# EAGLE library part QFN80 (library ASS3145-QFN80-0.5-CL)
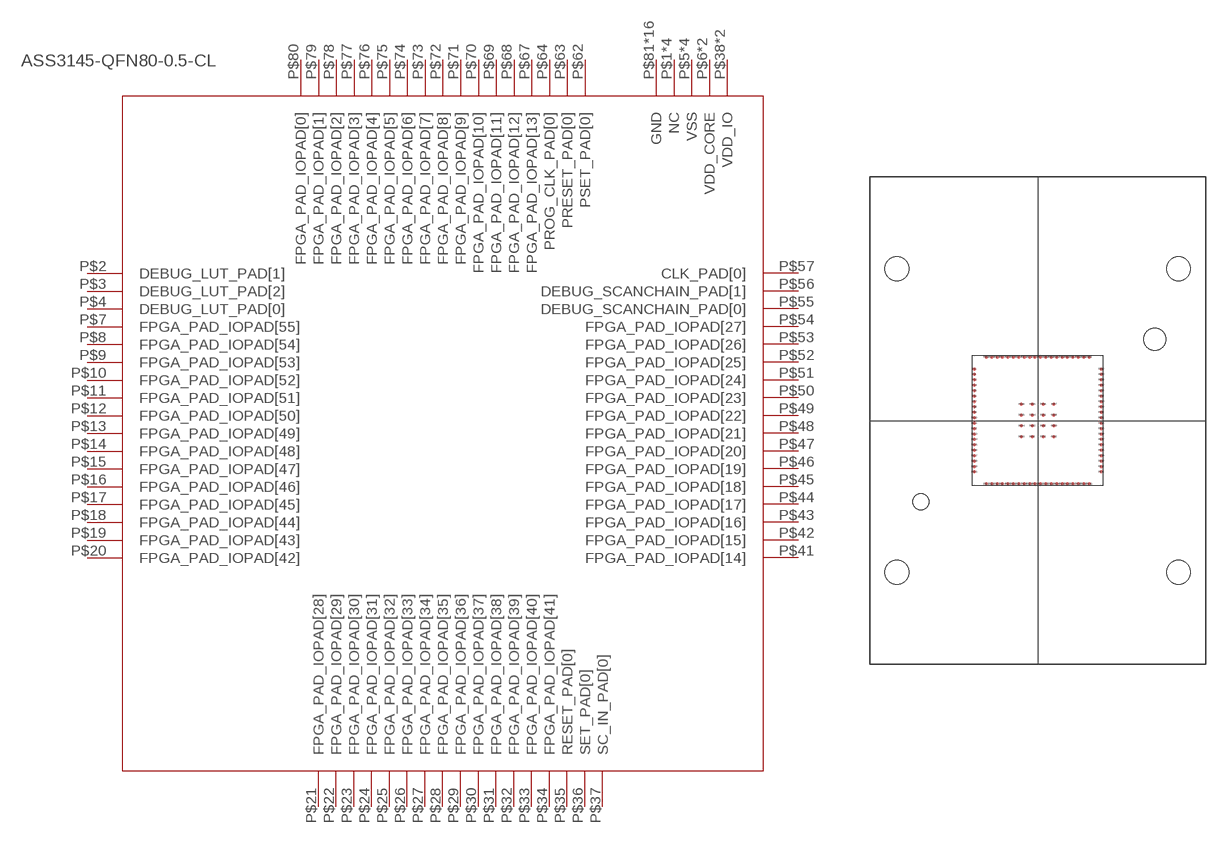
[diagram p0: symbol with the pads of GF130; footprint GF130]

Designator prefix -

## QFN80  [GF130]
P$1  NC
P$2  DEBUG_LUT_PAD[1]
P$3  DEBUG_LUT_PAD[2]
P$4  DEBUG_LUT_PAD[0]
P$5  VSS
P$6  VDD_CORE
P$7  FPGA_PAD_IOPAD[55]
P$8  FPGA_PAD_IOPAD[54]
P$9  FPGA_PAD_IOPAD[53]
P$10  FPGA_PAD_IOPAD[52]
P$11  FPGA_PAD_IOPAD[51]
P$12  FPGA_PAD_IOPAD[50]
P$13  FPGA_PAD_IOPAD[49]
P$14  FPGA_PAD_IOPAD[48]
P$15  FPGA_PAD_IOPAD[47]
P$16  FPGA_PAD_IOPAD[46]
P$17  FPGA_PAD_IOPAD[45]
P$18  FPGA_PAD_IOPAD[44]
P$19  FPGA_PAD_IOPAD[43]
P$20  FPGA_PAD_IOPAD[42]
P$21  FPGA_PAD_IOPAD[28]
P$22  FPGA_PAD_IOPAD[29]
P$23  FPGA_PAD_IOPAD[30]
P$24  FPGA_PAD_IOPAD[31]
P$25  FPGA_PAD_IOPAD[32]
P$26  FPGA_PAD_IOPAD[33]
P$27  FPGA_PAD_IOPAD[34]
P$28  FPGA_PAD_IOPAD[35]
P$29  FPGA_PAD_IOPAD[36]
P$30  FPGA_PAD_IOPAD[37]
P$31  FPGA_PAD_IOPAD[38]
P$32  FPGA_PAD_IOPAD[39]
P$33  FPGA_PAD_IOPAD[40]
P$34  FPGA_PAD_IOPAD[41]
P$35  RESET_PAD[0]
P$36  SET_PAD[0]
P$37  SC_IN_PAD[0]
P$38  VDD_IO
P$39  VSS
P$40  NC
P$41  FPGA_PAD_IOPAD[14]
P$42  FPGA_PAD_IOPAD[15]
P$43  FPGA_PAD_IOPAD[16]
P$44  FPGA_PAD_IOPAD[17]
P$45  FPGA_PAD_IOPAD[18]
P$46  FPGA_PAD_IOPAD[19]
P$47  FPGA_PAD_IOPAD[20]
P$48  FPGA_PAD_IOPAD[21]
P$49  FPGA_PAD_IOPAD[22]
P$50  FPGA_PAD_IOPAD[23]
P$51  FPGA_PAD_IOPAD[24]
P$52  FPGA_PAD_IOPAD[25]
P$53  FPGA_PAD_IOPAD[26]
P$54  FPGA_PAD_IOPAD[27]
P$55  DEBUG_SCANCHAIN_PAD[0]
P$56  DEBUG_SCANCHAIN_PAD[1]
P$57  CLK_PAD[0]
P$58  VDD_CORE
P$59  VSS
P$60  NC
P$61  NC
P$62  PSET_PAD[0]
P$63  PRESET_PAD[0]
P$64  PROG_CLK_PAD[0]
P$65  VSS
P$66  VDD_IO
P$67  FPGA_PAD_IOPAD[13]
P$68  FPGA_PAD_IOPAD[12]
P$69  FPGA_PAD_IOPAD[11]
P$70  FPGA_PAD_IOPAD[10]
P$71  FPGA_PAD_IOPAD[9]
P$72  FPGA_PAD_IOPAD[8]
P$73  FPGA_PAD_IOPAD[7]
P$74  FPGA_PAD_IOPAD[6]
P$75  FPGA_PAD_IOPAD[5]
P$76  FPGA_PAD_IOPAD[4]
P$77  FPGA_PAD_IOPAD[3]
P$78  FPGA_PAD_IOPAD[2]
P$79  FPGA_PAD_IOPAD[1]
P$80  FPGA_PAD_IOPAD[0]
P$81  GND
P$82  GND
P$83  GND
P$84  GND
P$85  GND
P$86  GND
P$87  GND
P$88  GND
P$89  GND
P$90  GND
P$91  GND
P$92  GND
P$93  GND
P$94  GND
P$95  GND
P$96  GND

## Footprint GF130 (pad centres in mm)
smd 0.34 x 0.34: P$1 9.64,-17.75; P$2 9.64,-18.25; P$3 9.64,-18.75; P$4 9.64,-19.25; P$5 9.64,-19.75; P$6 9.64,-20.25; P$7 9.64,-20.75; P$8 9.64,-21.25; P$9 9.64,-21.75; P$10 9.64,-22.25; P$11 9.64,-22.75; P$12 9.64,-23.25; P$13 9.64,-23.75; P$14 9.64,-24.25; P$15 9.64,-24.75; P$16 9.64,-25.25; P$17 9.64,-25.75; P$18 9.64,-26.25; P$19 9.64,-26.75; P$20 9.64,-27.25; P$21 10.75,-28.36; P$22 11.25,-28.36; P$23 11.75,-28.36; P$24 12.25,-28.36; P$25 12.75,-28.36; P$26 13.25,-28.36; P$27 13.75,-28.36; P$28 14.25,-28.36; P$29 14.75,-28.36; P$30 15.25,-28.36; P$31 15.75,-28.36; P$32 16.25,-28.36; P$33 16.75,-28.36; P$34 17.25,-28.36; P$35 17.75,-28.36; P$36 18.25,-28.36; P$37 18.75,-28.36; P$38 19.25,-28.36; P$39 19.75,-28.36; P$40 20.25,-28.36; P$41 21.37,-27.25; P$42 21.37,-26.75; P$43 21.37,-26.25; P$44 21.37,-25.75; P$45 21.37,-25.25; P$46 21.37,-24.75; P$47 21.37,-24.25; P$48 21.37,-23.75; P$49 21.37,-23.25; P$50 21.37,-22.75; P$51 21.37,-22.25; P$52 21.37,-21.75; P$53 21.37,-21.25; P$54 21.37,-20.75; P$55 21.37,-20.25; P$56 21.37,-19.75; P$57 21.37,-19.25; P$58 21.37,-18.75; P$59 21.37,-18.25; P$60 21.37,-17.75; P$61 20.25,-16.65; P$62 19.75,-16.65; P$63 19.25,-16.65; P$64 18.75,-16.65; P$65 18.25,-16.65; P$66 17.75,-16.65; P$67 17.25,-16.65; P$68 16.75,-16.65; P$69 16.25,-16.65; P$70 15.75,-16.65; P$71 15.25,-16.65; P$72 14.75,-16.65; P$73 14.25,-16.65; P$74 13.75,-16.65; P$75 13.25,-16.65; P$76 12.75,-16.65; P$77 12.25,-16.65; P$78 11.75,-16.65; P$79 11.25,-16.65; P$80 10.75,-16.65; P$81 16,-22; P$82 16,-23; P$83 15,-23; P$84 15,-22; P$85 15,-21; P$86 16,-21; P$87 17,-21; P$88 17,-22; P$89 17,-23; P$90 17,-24; P$91 16,-24; P$92 15,-24; P$93 14,-24; P$94 14,-23; P$95 14,-22; P$96 14,-21
hole 1.5 at 4.7,-30
hole 2.2 at 2.5,-36.5
hole 2.2 at 28.5,-36.5
hole 2 at 26.3,-15
hole 2.2 at 28.5,-8.5
hole 2.2 at 2.5,-8.5